# EAGLE library part V58C2256804S (library Memory)
HIGH PERFORMANCE 256 Mbit DDR SDRAM. The V58C2256(804/404/164)S is a four bank DDR DRAM organized as 4 banks x 8Mbit x 8 (804), 4 banks x 4Mbit x 16 (164), or 4 banks x 16Mbit x 4 (404) Features: High speed data transfer rates with system frequency up to 200 MHz Data Mask for Write Control Four Banks controlled by BA0 & BA1 Programmable CAS Latency: 2, 2.5, 3 Programmable Wrap Sequence: Sequential or Interleave. Programmable Burst Length: 2, 4, 8 for Sequential Type 2, 4, 8 for Interleave Type Automatic and Controlled Precharge Command Power Down Mode Auto Refresh and Self Refresh Refresh Interval: 8192 cycles/64 ms Available in 66-pin 400 mil TSOP or 60 Ball SOC BGA SSTL-2 Compatible I/Os Double Data Rate (DDR) Bidirectional Data Strobe (DQS) for input and output data, active on both edges On-Chip DLL aligns DQ and DQs transitions with CK transitions Differential clock inputs CK and CK Power Supply 2.5V ± 0.2V Power Supply 2.6V ± 0.1V for DDR400 QFC options for FET control. x4 parts.
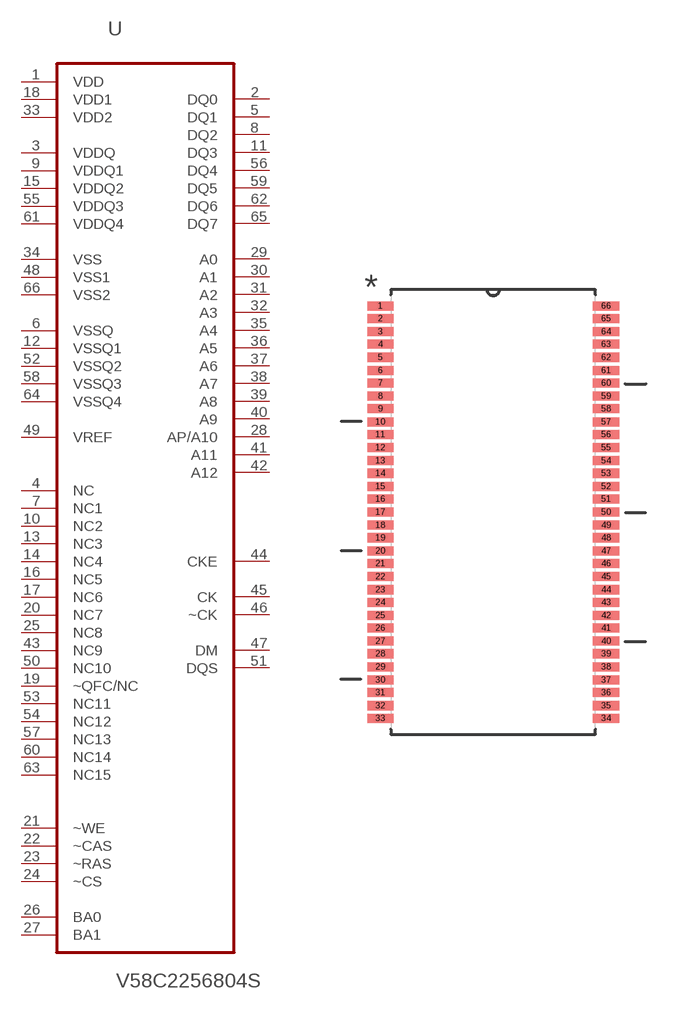
[diagram p0: symbol with the pads of TSOP65P1176X120-66N; footprint TSOP65P1176X120-66N]

Designator prefix U

## V58C2256804S  [TSOP65P1176X120-66N]
1  VDD  pwr
2  DQ0
3  VDDQ
4  NC  nc
5  DQ1
6  VSSQ  pwr
7  NC1  nc
8  DQ2
9  VDDQ1
10  NC2  nc
11  DQ3
12  VSSQ1  pwr
13  NC3  nc
14  NC4  nc
15  VDDQ2
16  NC5  nc
17  NC6  nc
18  VDD1  pwr
19  ~QFC/NC  in
20  NC7  nc
21  ~WE  in
22  ~CAS  in
23  ~RAS  in
24  ~CS  in
25  NC8  nc
26  BA0  in
27  BA1  in
28  AP/A10  in
29  A0  in
30  A1  in
31  A2  in
32  A3  in
33  VDD2  pwr
34  VSS  pwr
35  A4  in
36  A5  in
37  A6  in
38  A7  in
39  A8  in
40  A9  in
41  A11  in
42  A12  in
43  NC9  nc
44  CKE  in
45  CK  in
46  ~CK  in
47  DM  in
48  VSS1  pwr
49  VREF  pwr
50  NC10  nc
51  DQS  in
52  VSSQ2  pwr
53  NC11  nc
54  NC12  nc
55  VDDQ3
56  DQ4
57  NC13  nc
58  VSSQ3  pwr
59  DQ5
60  NC14  nc
61  VDDQ4
62  DQ6
63  NC15  nc
64  VSSQ4  pwr
65  DQ7
66  VSS2  pwr

## Footprint TSOP65P1176X120-66N (pad centres in mm)
smd 1.321 x 0.457: 1 -5.69,10.389; 2 -5.69,9.754; 3 -5.69,9.093; 4 -5.69,8.458; 5 -5.69,7.798; 6 -5.69,7.137; 7 -5.69,6.502; 8 -5.69,5.842; 9 -5.69,5.207; 10 -5.69,4.547; 11 -5.69,3.912; 12 -5.69,3.251; 13 -5.69,2.591; 14 -5.69,1.956; 15 -5.69,1.295; 16 -5.69,0.66; 17 -5.69,0; 18 -5.69,-0.66; 19 -5.69,-1.295; 20 -5.69,-1.956; 21 -5.69,-2.591; 22 -5.69,-3.251; 23 -5.69,-3.912; 24 -5.69,-4.547; 25 -5.69,-5.207; 26 -5.69,-5.842; 27 -5.69,-6.502; 28 -5.69,-7.137; 29 -5.69,-7.798; 30 -5.69,-8.458; 31 -5.69,-9.093; 32 -5.69,-9.754; 33 -5.69,-10.389; 34 5.69,-10.389; 35 5.69,-9.754; 36 5.69,-9.093; 37 5.69,-8.458; 38 5.69,-7.798; 39 5.69,-7.137; 40 5.69,-6.502; 41 5.69,-5.842; 42 5.69,-5.207; 43 5.69,-4.547; 44 5.69,-3.912; 45 5.69,-3.251; 46 5.69,-2.591; 47 5.69,-1.956; 48 5.69,-1.295; 49 5.69,-0.66; 50 5.69,0; 51 5.69,0.66; 52 5.69,1.295; 53 5.69,1.956; 54 5.69,2.591; 55 5.69,3.251; 56 5.69,3.912; 57 5.69,4.547; 58 5.69,5.207; 59 5.69,5.842; 60 5.69,6.502; 61 5.69,7.137; 62 5.69,7.798; 63 5.69,8.458; 64 5.69,9.093; 65 5.69,9.754; 66 5.69,10.389